# Altium schematic symbol library buck2.SchLib: 25 symbols
Pins are listed as number, name and electrical type; pins without a type are passive.

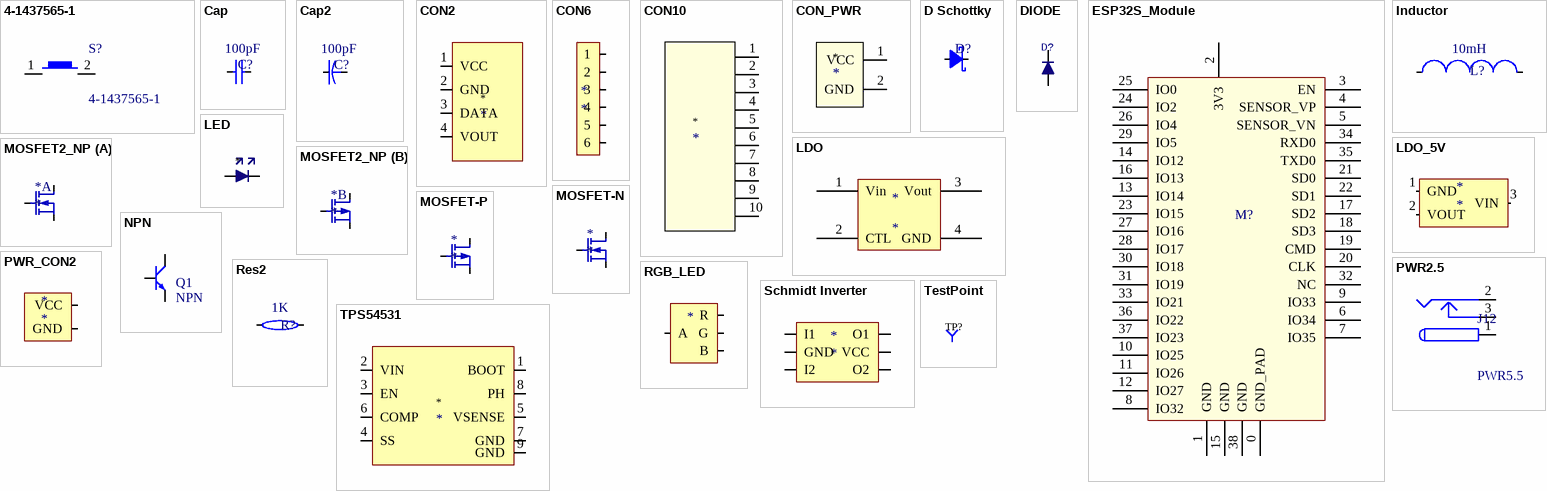
[diagram p0: symbols 4-1437565-1 to TPS54531]

## 4-1437565-1
designator S?
6x6mm SMD tactile switch,5mm H 1.6N Black Button Tactile Switch, SPST-NO 0.05 A@ 12 V dc 1.4mm; Manufacturer_Name: TE Connectivity; Allied_Number: R1117787; RS Part Number: 1616046; Manufacturer_Part_Number: 4-1437565-1; Datasheet Link: http://uk.rs-online.com/web/p/products/1616046
footprint FSM-SWITCH
footprint FSM-SWITCH
pins: 1, 2, 3 "TP", 4 "TP"

## Cap
designator C?  value 100pF  (hidden comment: Cap)
Capacitor; Published: 8-Jun-2000; LatestRevisionDate: 17-Jul-2002; LatestRevisionNote: Re-released for DXP Platform.; PackageReference: RAD-0.3; Publisher: Altium Limited; PackageDescription: Radial Cap, Thru-Hole; 2 Leads; 0.3 in Pin Spacing
footprint CAPC_1206_3216X16L (Chip Capacitor, 2-Leads, Body 3.20x1.60mm, IPC High Density)
footprint CAPC_0603_1608X08L (Chip Capacitor, 2-Leads, Body 1.60x0.80mm, IPC High Density)
pins: 1, 2

## Cap2
designator C?  value 100pF
Capacitor; Published: 23-Sep-2002; PackageReference: CAPR5-4X5; Publisher: Altium Limited; PackageDescription: Capacitor; 2 Leads
footprint CAPAE10083X104N (Aluminum Electrolytic Capacitor, Body 8.30x8.30x10.40mm, IPC Medium Density)
pins: 1, 2

## CON2
designator *  (no BOM)
footprint CONNECTOR
pins: 1 VCC "TP", 2 GND "TP", 3 DATA "TP", 4 VOUT "TP"

## CON6
designator *
footprint CON2X3 (2x3 2.54mm)
pins: 1, 2, 3, 4, 5, 6

## CON10
designator *  (no BOM)
footprint CON10
pins: 1 "TP", 2 "TP", 3 "TP", 4 "TP", 5 "TP", 6 "TP", 7 "TP", 8 "TP", 9 "TP", 10 "TP"

## CON_PWR
designator *
footprint CONPWR
pins: 1 VCC "TP", 2 GND "TP"

## D Schottky
designator D?
Schottky Diode; Published: 8-Jun-2000; LatestRevisionDate: 17-Jul-2002; LatestRevisionNote: Re-released for DXP Platform.; PackageReference: SMB; Publisher: Altium Limited; PackageDescription: DO-214-AA/SMB; 2 C-Bend Leads; Body 5.3 x 3.6 mm, inc. leads (LxW); Code_JEDEC: DO-214-AA
footprint DIOM1713X11N (Footprint not found)
pins: 1 A, 2 K

## DIODE
designator D?  (value not drawn)
footprint DIOM1713X11N (Molded Diode, 2-Leads, Body 1.70x1.30mm, IPC Medium Density)
pins: 1 (power), 2 (power)

## ESP32S_Module
designator M?  (value not drawn)
Esp-32S; Datasheet: https://espressif.com/sites/default/files/documentation/esp_wroom_32_datasheet_en.pdf
footprint ESP32S (ESP32S-Module)
footprint ESP32S_W (Esp32S Module wide for hand soldering)
pins: 0 GND_PAD (power), 1 GND (power), 2 3V3 (power), 3 EN (power), 4 SENSOR_VP, 5 SENSOR_VN, 6 IO34, 7 IO35, 8 IO32, 9 IO33, 10 IO25, 11 IO26, 12 IO27, 13 IO14, 14 IO12, 15 GND (power), 16 IO13, 17 SD2, 18 SD3, 19 CMD, 20 CLK, 21 SD0, 22 SD1, 23 IO15, 24 IO2, 25 IO0, 26 IO4, 27 IO16, 28 IO17, 29 IO5, 30 IO18, 31 IO19, 32 NC, 33 IO21, 34 RXD0, 35 TXD0, 36 IO22, 37 IO23, 38 GND (power)

## Inductor
designator L?  value 10mH
Inductor; Code_IEC: 1005; Published: 8-Jun-2000; LatestRevisionDate: 29-May-2009; LatestRevisionNote: IPC-7351 Footprint Added.; PackageReference: 0402-A; Publisher: Altium Limited; PackageDescription: Chip Inductor; Code_JEITA: 0402
footprint INDP130128X70N (Precision Wire Wound Inductor, 2-Leads, Body 13.00x12.80mm, IPC Medium Density)
pins: 1, 2

## LDO
designator *
LDO Voltage Regulator
footprint SOT230P700X180-4N (SOT223, 4-Leads, Body 6.50x7.00mm (avg), Pitch 2.30mm, IPC Medium Density)
pins: 1 Vin, 2 CTL, 3 Vout, 4 GND

## LDO_5V
designator *
footprint SOT23 (SOT23, 3-Leads, Body 2.90x2.45mm, Pitch 0.95mm, IPC High Density)
pins: 1 GND, 2 VOUT, 3 VIN

## LED
designator *  (value not drawn)
footprint Chip2PinSM127P600-8N (SMT LED)
pins: 1 CATHODE "TP", 2 ANODE "TP"

## MOSFET2_NP
designator *
footprint SOTFL35P100X50-6N
part A pins: 1 S1, 2 G1, 6 D1
part B pins: 3 D2, 4 S2, 5 G2

## MOSFET-N
designator *
footprint SOT23 (SOT23, 3-Leads, Body 2.90x2.45mm, Pitch 0.95mm, IPC High Density)
pins: 1 G, 2 S, 3 D

## MOSFET-P
designator *
footprint SOT23 (SOT23, 3-Leads, Body 2.90x2.45mm, Pitch 0.95mm, IPC High Density)
pins: 1 G, 2 S, 3 D

## NPN
designator Q1
NPN Bipolar Transistor; Published: 8-Jun-2000; LatestRevisionDate: 17-Jul-2002; LatestRevisionNote: Re-released for DXP Platform.; PackageReference: TO-226-AA; Publisher: Altium Limited; PackageDescription: TO, Flat Index; 3 In-Line, Axial Leads; Body Dia. 4.8mm; Leads 0.55 x 0.51 mm (max); Code_JEDEC: TO-226-AA
footprint SOT23 (SOT23, 3-Leads, Body 2.90x2.45mm, Pitch 0.95mm, IPC High Density)
pins: 1 B, 2 E, 3 C

## PWR2.5
designator J12, comment PWR5.5
Low Voltage Power Supply Connector; Published: 17-Dec-2003; DatasheetDocument: 09-May-2002; Publisher: Altium Limited; ComponentLink1Description: Manufacturer Link; ComponentLink1URL: http://domino.kycon.com/internet/Products.html
footprint DC_CON
pins: 1 (power), 2, 3

## PWR_CON2
designator *
footprint PWR_CON2
pins: 1 VCC, 2 GND

## Res2
designator R?  value 1K
Resistor; Published: 8-Jun-2000; LatestRevisionDate: 17-Jul-2002; LatestRevisionNote: Re-released for DXP Platform.; PackageReference: AXIAL-0.4; Publisher: Altium Limited; PackageDescription: Axial Device, Thru-Hole; 2 Leads; 0.4 in Pin Spacing
footprint RESC_0603_1608X08L (Chip Resistor, 2-Leads, Body 1.60x0.80mm, IPC High Density)
pins: 1, 2

## RGB_LED
designator *, comment dot marks common anode  (value not drawn)
footprint PLCC-4 (LED)
pins: 1 R, 2 A, 3 G, 4 B

## Schmidt Inverter
designator *
footprint SOT65P210X110-6L (SOT23, 6-Leads, Body 2.00x2.10mm, Pitch 0.65mm, IPC High Density)
pins: 1 I1, 2 GND, 3 I2, 4 O2, 5 VCC, 6 O1

## TestPoint
designator TP?  (value not drawn)
footprint TESTPOINT
pins: 1 "TP"

## TPS54531
designator *
footprint SOIC127P600X150_HS-9L (SOIC, 8-Leads, Body 4.88x3.85mm, Pitch 1.27mm, Thermal Pad 3.15x2.45mm, IPC High Density)
pins: 1 BOOT "TP", 2 VIN "TP", 3 EN "TP", 4 SS "TP", 5 VSENSE "TP", 6 COMP "TP", 7 GND "TP", 8 PH "TP", 9 GND "TP"